# Altium footprint library S7CAS_LIB2023.PcbLib: 100 footprints (part 6 of 7)
Each footprint in its own frame and in the unit in brackets; x right, y up, seen from the top. Pads: shape width x height; smd on the part's side, far side on the other; paste and mask are expansions set on the pad; w line width, h text height; cw(c..) or ccw(c..) is an arc to the next point about the centre after c.
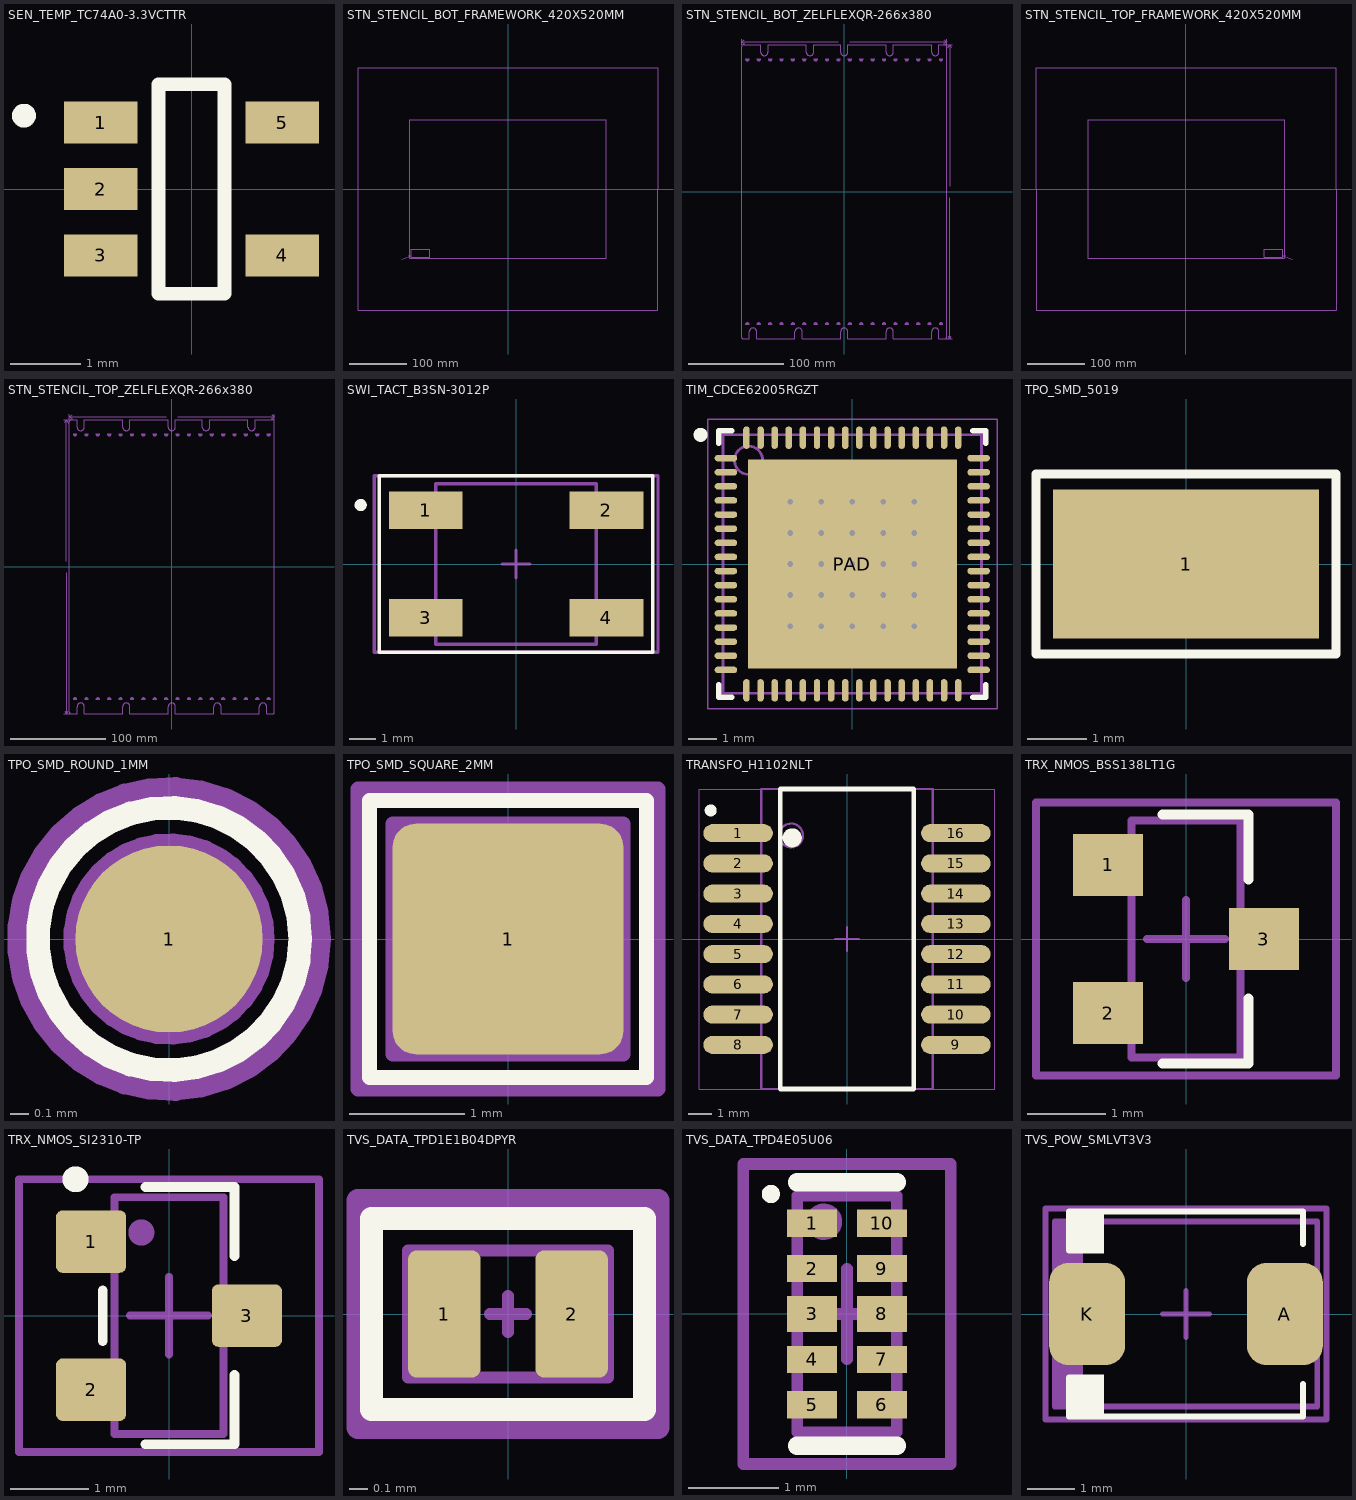
[diagram p5: the footprints below, top view; thin cyan lines are the x and y axes]

## SEN_TEMP_TC74A0-3.3VCTTR [mm]
pads (5):
  rect 1.05x0.6 smd paste-0.05 mask+0.07: 1(-1.3,0.95) 2(-1.3,0) 3(-1.3,-0.95) 4(1.3,-0.95) 5(1.3,0.95)
Top Overlay:
  circle w0.2: c-2.4,1.05 r0.071
  lines w0.2: -0.475,-1.5 0.475,-1.5 0.475,1.5 -0.475,1.5 -0.475,-1.5
3D body "SOT-23-5.STEP": height 1.45, standoff 0.01, extent -1.6,-1.575 1.6,1.525

## STN_STENCIL_BOT_FRAMEWORK_420X520MM [mm]
Bottom Paste:
  lines w0.152: -260,-210 -260,210 260,210 260,-210 -260,-210 ; -170,-120 170,-120 170,120 -170,120 -170,-120
  lines w0.508: -183.797,-121.867 -168.764,-115.424 ; -171.888,-115.068 -168.764,-115.424 ; -170.745,-118.142 -168.764,-115.424 ; -168,-118 -168,-104.248 -136,-104.248 -136,-118 -168,-118
  text "PCB Revision" at -146.304,-110.744 h0.89
  text ".Project_PCB_Rev" at -143.942,-110.769 h0.89
  text "VALID AREA - 240 x 340 mm" at 83.323,-135.624 h6.5
  text "FRAME SIZE - 420 x 520 mm" at 80.783,159.016 h6.5
  text "PCB Revision" at -50.8,-205.74 h6.48
  text ".Project_PCB_Rev" at -40.64,-205.74 h6.48
  text "Half-Etched  / Lasered Text / DO NOT REMOVE" at -172.726,-140.341 h3.81
  text "BOT" at -146,-117 h2.54
  text "STENCIL THICKNESS -" at 78.21,-173.807 h6.5
  text ".Project_Stencil_Bot_Thickness" at -47.879,-173.807 h6.5
  text ".Project_Name" at 223,-204.606 h6.48
  text ".Project_Name" at -137,-109.016 h0.89
  text "BOT" at -172.491,-204.606 h6.48
  text ".Project_Stencil_Bot_Thickness" at -158.699,-112.884 h0.89
  text "STENCIL THICKNESS -" at -141.459,-112.884 h0.89
3D body: height 0, standoff 0, extent -260,-210 -258,-208

## STN_STENCIL_BOT_ZELFLEXQR-266x380 [mm]
Bottom Paste:
  drawing of 110 lines, arcs and shapes, not listed
  text "BOTTOM" at -60,-152 h4
  text ".Project_Name" at 90.66,-154.13 h2
  text "STENCIL THICKNESS -" at 91.649,-174.068 h6.5
  text ".Project_Stencil_Bot_Thickness" at 116.477,-174.688 h6.5
  text "310 MM" at 110,-7 h1.78
  text "216 MM" at 6.948,157 h1.78
  text "PCB Revision" at 41.991,-148.671 h2
  text ".Project_PCB_Rev" at 41.979,-153.308 h2
3D body: height 0.3, standoff -11.2, extent 102.002,-155 102.002,-155
3D body: height 0.3, standoff -11.2, extent 102.2,-155 102.2,-155
3D body: height 0, standoff 0, extent 106,-155 108,-153

## STN_STENCIL_TOP_FRAMEWORK_420X520MM [mm]
Top Paste:
  lines w0.152: -260,-210 -260,210 260,210 260,-210 -260,-210 ; -170,-120 170,-120 170,120 -170,120 -170,-120
  lines w0.508: 170.745,-118.142 168.764,-115.424 ; 171.888,-115.068 168.764,-115.424 ; 183.797,-121.867 168.764,-115.424 ; 136,-118 136,-104.248 168,-104.248 168,-118 136,-118
  text ".Project_Stencil_Top_Thickness" at 158.928,-112.884 h0.89
  text ".Project_PCB_Rev" at 40.64,-205.74 h6.48
  text "PCB Revision" at 50.8,-205.74 h6.48
  text "FRAME SIZE - 420 x 520 mm" at -80.783,159.016 h6.5
  text "VALID AREA - 240 x 340 mm" at -83.323,-135.624 h6.5
  text ".Project_PCB_Rev" at 143.942,-110.769 h0.89
  text "PCB Revision" at 146.304,-110.744 h0.89
  text "STENCIL THICKNESS -" at 141.459,-112.884 h0.89
  text "TOP" at 172.491,-205.74 h6.48
  text ".Project_Name" at 137,-109.016 h0.89
  text ".Project_Name" at -223,-205.74 h6.48
  text ".Project_Stencil_Top_Thickness" at 50.292,-173.807 h6.5
  text "STENCIL THICKNESS -" at -78.21,-173.807 h6.5
  text "TOP" at 146,-117 h2.54
  text "Half-Etched  / Lasered Text / DO NOT REMOVE" at 172.726,-140.341 h3.81
3D body: height 0, standoff 0, extent -260,-210 -258,-208

## STN_STENCIL_TOP_ZELFLEXQR-266x380 [mm]
Top Paste:
  drawing of 110 lines, arcs and shapes, not listed
  text "TOP" at 65.584,-151.45 h4
  text ".Project_Name" at -90.66,-154.13 h2
  text "STENCIL THICKNESS -" at -91.649,-174.068 h6.5
  text ".Project_Stencil_Top_Thickness" at -116.477,-174.688 h6.5
  text "310 MM" at -110,-7 h1.78
  text "216 MM" at -6.948,157 h1.78
  text "PCB Revision" at -41.991,-148.671 h2
  text ".Project_PCB_Rev" at -41.979,-153.308 h2
3D body: height 0, standoff 0, extent -108,-155 -106,-153
3D body: height 0.3, standoff -11.2, extent -102.002,-155 -102.002,-155
3D body: height 0.3, standoff -11.2, extent -102.2,-155 -102.2,-155

## SWI_TACT_B3SN-3012P [mm]
pads (4):
  rect 2.75x1.4 smd paste-0.025 mask+0.07: 1(-3.375,2) 2(3.375,2) 3(-3.375,-2) 4(3.375,-2)
Top Overlay:
  circle w0.254: c-5.8,2.2 r0.1
  lines w0.127: -5.1,-3.3 5.1,-3.3 5.1,3.3 -5.1,3.3 -5.1,-3.3
Mechanical 1:
  lines w0.127: -3,-3 3,-3 3,3 -3,3 -3,-3
Mechanical 15:
  lines w0.127: -0.508,0 0.508,0 ; 0,-0.508 0,0 0,0.508 ; -5.3,-3.3 -5.3,3.3 5.3,3.3 5.3,-3.3 -5.3,-3.3
3D body: height 3.2, standoff 2.1, extent -1.488,-1.497 1.5,1.497
3D body: height 2, standoff 0.1, extent -3.048,-3.048 3.048,3.048

## TIM_CDCE62005RGZT [mm] "QFN, 64-Leads, Body 9,00x9,00mm, Pitch 0,50mm, Thermal Pad 7,40x7,40mm, IPC Medium Density"
height 1
pads (65):
  oval 0.8x0.23 smd mask+0.07: 1(-4.475,3.75) 2(-4.475,3.25) 3(-4.475,2.75) 4(-4.475,2.25) 5(-4.475,1.75) 6(-4.475,1.25) 7(-4.475,0.75) 8(-4.475,0.25) 9(-4.475,-0.25) 10(-4.475,-0.75) 11(-4.475,-1.25) 12(-4.475,-1.75) 13(-4.475,-2.25) 14(-4.475,-2.75) 15(-4.475,-3.25) 16(-4.475,-3.75) 33(4.475,-3.75) 34(4.475,-3.25) 35(4.475,-2.75) 36(4.475,-2.25) 37(4.475,-1.75) 38(4.475,-1.25) 39(4.475,-0.75) 40(4.475,-0.25) 41(4.475,0.25) 42(4.475,0.75) 43(4.475,1.25) 44(4.475,1.75) 45(4.475,2.25) 46(4.475,2.75) 47(4.475,3.25) 48(4.475,3.75)
  oval 0.23x0.8 smd mask+0.07: 17(-3.75,-4.475) 18(-3.25,-4.475) 19(-2.75,-4.475) 20(-2.25,-4.475) 21(-1.75,-4.475) 22(-1.25,-4.475) 23(-0.75,-4.475) 24(-0.25,-4.475) 25(0.25,-4.475) 26(0.75,-4.475) 27(1.25,-4.475) 28(1.75,-4.475) 29(2.25,-4.475) 30(2.75,-4.475) 31(3.25,-4.475) 32(3.75,-4.475) 49(3.75,4.475) 50(3.25,4.475) 51(2.75,4.475) 52(2.25,4.475) 53(1.75,4.475) 54(1.25,4.475) 55(0.75,4.475) 56(0.25,4.475) 57(-0.25,4.475) 58(-0.75,4.475) 59(-1.25,4.475) 60(-1.75,4.475) 61(-2.25,4.475) 62(-2.75,4.475) 63(-3.25,4.475) 64(-3.75,4.475)
  rect 7.4x7.4 smd mask+0.07: PAD(0,0)
via 2.2,-2.2 diameter 0.5 hole 0.2
via 1.1,-2.2 diameter 0.5 hole 0.2
via 0,-2.2 diameter 0.5 hole 0.2
via -1.1,-2.2 diameter 0.5 hole 0.2
via -2.2,-2.2 diameter 0.5 hole 0.2
via 2.2,-1.1 diameter 0.5 hole 0.2
via 1.1,-1.1 diameter 0.5 hole 0.2
via 0,-1.1 diameter 0.5 hole 0.2
via -1.1,-1.1 diameter 0.5 hole 0.2
via -2.2,-1.1 diameter 0.5 hole 0.2
via 2.2,0 diameter 0.5 hole 0.2
via 1.1,0 diameter 0.5 hole 0.2
via 0,0 diameter 0.5 hole 0.2
via -1.1,0 diameter 0.5 hole 0.2
via -2.2,0 diameter 0.5 hole 0.2
via 2.2,1.1 diameter 0.5 hole 0.2
via 1.1,1.1 diameter 0.5 hole 0.2
via 0,1.1 diameter 0.5 hole 0.2
via -1.1,1.1 diameter 0.5 hole 0.2
via -2.2,1.1 diameter 0.5 hole 0.2
via 2.2,2.2 diameter 0.5 hole 0.2
via 1.1,2.2 diameter 0.5 hole 0.2
via 0,2.2 diameter 0.5 hole 0.2
via -1.1,2.2 diameter 0.5 hole 0.2
via -2.2,2.2 diameter 0.5 hole 0.2
Top Overlay:
  circle w0.25: c-5.375,4.575 r0.125
  lines w0.2: -4.725,-4.275 -4.725,-4.725 -4.275,-4.725 ; -4.725,4.275 -4.725,4.725 -4.275,4.725 ; 4.275,-4.725 4.725,-4.725 4.725,-4.275 ; 4.275,4.725 4.725,4.725 4.725,4.275
Mechanical 13:
  circle w0.1: c-3.675,3.675 r0.5
  lines w0.1: -4.575,-4.575 4.575,-4.575 4.575,4.575 -4.575,4.575 -4.575,-4.575
Mechanical 15:
  lines w0.05: -5.125,-5.125 5.125,-5.125 5.125,5.125 -5.125,5.125 -5.125,-5.125
  lines w0.1: -0.5,0 0.5,0 ; 0,-0.5 0,0.5
3D body: height 1, standoff 0.08, extent -4.575,-4.575 4.575,4.575

## TPO_SMD_5019 [mm]
pads (1):
  rect 4.5x2.53 smd paste-5 mask+0.07: 1(0,0)
Top Overlay:
  lines w0.152: -2.54,-1.524 2.54,-1.524 2.54,1.524 0.889,1.524 -1.397,1.524 -2.54,1.524 -2.54,-0.96 -2.54,-1.524
Top Paste:
  rectangle: 0.254,-1.143 2.159,1.143
  rectangle: -2.159,-1.143 -0.254,1.143
Mechanical 1:
  lines w0.127: -1.905,-1.016 -1.905,1.016 1.905,1.016 1.905,-1.016 -1.905,-1.016
Mechanical 15:
  lines w0.127: -0.762,0 0.762,0 ; 0,-0.762 0,0.762 ; -2.54,-1.524 2.54,-1.524 2.54,1.524 -2.54,1.524 -2.54,-1.524
3D body "User Library-User Library-Keystone_5019.step": height 2.29, standoff 0.01, extent -1.905,-1.015 1.905,1.015

## TPO_SMD_ROUND_1MM [mm]
pads (1):
  round 1 smd paste-2 mask+0.07: 1(0,0)
Top Overlay:
  circle w0.127: c0,0 r0.7
Mechanical 1:
  circle w0.127: c0,0 r0.5
Mechanical 15:
  circle w0.127: c0,0 r0.8
  lines w0.127: -0.2,0 0.2,0 ; 0,-0.2 0,0.2
3D body: height 0, standoff 0, extent -0.4,-0.4 0.4,0.4

## TPO_SMD_SQUARE_2MM [mm]
pads (1):
  rrect20% 2x2 smd paste-2 mask+0.07: 1(0,0)
Top Overlay:
  lines w0.127: -1.2,-1.2 -1.2,1.2 1.2,1.2 1.2,-1.2 -1.2,-1.2
Mechanical 1:
  lines w0.127: -1,-1 -1,1 1,1 1,-1 -1,-1
Mechanical 15:
  lines w0.127: -0.6,0 0.6,0 ; 0,-0.6 0,0.6 ; -1.3,-1.3 -1.3,1.3 1.3,1.3 1.3,-1.3 -1.3,-1.3
3D body: height 0, standoff 0, extent -1,-1 1,1

## TRANSFO_H1102NLT [mil]
height 236
pads (16):
  oval 115x30 smd: 1(-180,175) 2(-180,125) 3(-180,75) 4(-180,25) 5(-180,-25) 6(-180,-75) 7(-180,-125) 8(-180,-175) 9(180,-175) 10(180,-125) 11(180,-75) 12(180,-25) 13(180,25) 14(180,75) 15(180,125) 16(180,175)
Top Overlay:
  circle w15.75: c-90.55,167.32 r7.87
  circle w9.84: c-225.39,212.6 r4.92
  lines w7.87: -110.24,-248.03 110.24,-248.03 110.24,248.03 -110.24,248.03 -110.24,-248.03
Mechanical 13:
  circle w3.94: c-92.52,171.26 r19.68
  lines w3.94: -141.73,-248.03 141.73,-248.03 141.73,248.03 -141.73,248.03 -141.73,-248.03
Mechanical 15:
  lines w1.97: -244.09,-248.03 244.09,-248.03 244.09,248.03 -244.09,248.03 -244.09,-248.03
  lines w3.94: -19.68,0 19.69,0 ; 0,-19.68 0,19.68
3D body "User Library-Ethernet Transfo.step": height 214.57, standoff -4, extent -174.86,-251.94 174.86,252

## TRX_NMOS_BSS138LT1G [mm]
pads (3):
  rect 0.9x0.8 smd paste-0.025 mask+0.07: 1(-1,0.95) 2(-1,-0.95) 3(1,0)
Top Overlay:
  lines w0.127: -0.3,-1.6 0.8,-1.6 0.8,-0.763 ; -0.3,1.6 0.8,1.6 0.8,0.764
Mechanical 1:
  lines w0.1: -0.7,-1.52 -0.7,1.52 0.7,1.52 0.7,-1.52 -0.7,-1.52
Mechanical 15:
  lines w0.1: -0.5,0 0.5,0 ; 0,-0.5 0,0.5 ; -1.925,-1.75 -1.925,1.75 1.925,1.75 1.925,-1.75 -1.925,-1.75
3D body "TRX_SOT-23.step": height 1.11, standoff 0, extent -1.32,-1.52 1.32,1.52

## TRX_NMOS_SI2310-TP [mm]
pads (3):
  rrect20% 0.9x0.8 smd paste-0.025 mask+0.07: 1(-1,0.95) 2(-1,-0.95) 3(1,0)
Top Overlay:
  circle w0.25: c-1.2,1.75 r0.042
  lines w0.127: -0.85,-0.325 -0.85,0.325 ; -0.3,-1.651 0.838,-1.651 0.838,-0.764 ; -0.3,1.651 0.838,1.651 0.838,0.764
Mechanical 1:
  circle w0.25: c-0.356,1.067 r0.042
  lines w0.1: -0.7,-1.52 -0.7,1.52 0.7,1.52 0.7,-1.52 -0.7,-1.52
Mechanical 15:
  lines w0.1: -0.5,0 0.5,0 ; 0,-0.5 0,0.5 ; -1.925,-1.75 -1.925,1.75 1.925,1.75 1.925,-1.75 -1.925,-1.75
3D body "SOT95P237X122-3N.step": height 1.22, standoff 0, extent -1.32,-1.52 1.32,1.52

## TVS_DATA_TPD1E1B04DPYR [mm]
pads (2):
  rrect25% 0.4x0.7 smd paste-0.025 mask+0.05: 1(-0.35,0) 2(0.35,0)
Top Overlay:
  lines w0.127: -0.75,-0.525 0.75,-0.525 0.75,0.525 -0.75,0.525 -0.75,-0.525
Mechanical 1:
  lines w0.065: -0.55,-0.35 0.55,-0.35 0.55,0.35 -0.55,0.35 -0.55,-0.35
Mechanical 15:
  lines w0.065: -0.1,0 0.1,0 ; 0,-0.1 0,0.1
  lines w0.127: -0.825,-0.625 0.825,-0.625 0.825,0.625 -0.825,0.625 -0.825,-0.625
3D body "tpd1e1b04dpyr_LibEx.STEP": height 0.45, standoff 0, extent -0.5,-0.3 0.5,0.3

## TVS_DATA_TPD4E05U06 [mm]
pads (10):
  rect 0.55x0.3 smd paste+0 mask+0.05: 1(-0.385,1) 2(-0.385,0.5) 4(-0.385,-0.5) 5(-0.385,-1) 6(0.385,-1) 7(0.385,-0.5) 9(0.385,0.5) 10(0.385,1)
  rect 0.55x0.4 smd paste+0 mask+0.05: 3(-0.385,0) 8(0.385,0)
Top Overlay:
  circle w0.1: c-0.838,1.321 r0.05
  lines w0.2: -0.55,-1.45 0.55,-1.45 ; -0.55,1.45 0.55,1.45
Mechanical 1:
  circle w0.1: c-0.254,1.016 r0.15
  lines w0.127: -0.55,-1.3 0.55,-1.3 0.55,1.3 -0.55,1.3 -0.55,-1.3
Mechanical 15:
  lines w0.127: -0.5,0 0.5,0 ; 0,-0.5 0,0.5 ; -1.143,-1.651 -1.143,1.651 1.143,1.651 1.143,-1.651 -1.143,-1.651
3D body: height 0.55, standoff 0, extent -0.55,-1.3 0.55,1.3

## TVS_POW_SMLVT3V3 [mm]
pads (2):
  rrect50% 1.62x2.18 smd paste-0.025 mask+0.07: A(2.11,0) K(-2.11,0)
Top Overlay:
  rectangle: -2.5,-2.184 -1.753,-1.295
  rectangle: -2.5,1.295 -1.753,2.184
  lines w0.127: -2.5,-1.359 -2.5,-2.184 2.5,-2.184 2.5,-1.493 ; -2.5,1.359 -2.5,2.184 2.5,2.184 2.5,1.493
Mechanical 1:
  rectangle: -2.8,-1.975 -2.2,1.975
  lines w0.127: -2.8,-1.975 2.8,-1.975 2.8,1.975 -2.8,1.975 -2.8,-1.975
Mechanical 15:
  lines w0.1: -0.5,0 0.5,0 ; 0,-0.5 0,0.5
  lines w0.127: -3,-2.25 3,-2.25 3,2.25 -3,2.25 -3,-2.25
3D body "DIOM4436X26N.step": height 2.61, standoff 0, extent -2.595,-1.97 2.595,1.97